# Altium footprint library BD80FD0WHFPTR.PcbLib: 1 footprints
Each footprint in its own frame and in the unit in brackets; x right, y up, seen from the top. Pads: shape width x height; smd on the part's side, far side on the other; paste and mask are expansions set on the pad; w line width, h text height; cw(c..) or ccw(c..) is an arc to the next point about the centre after c.
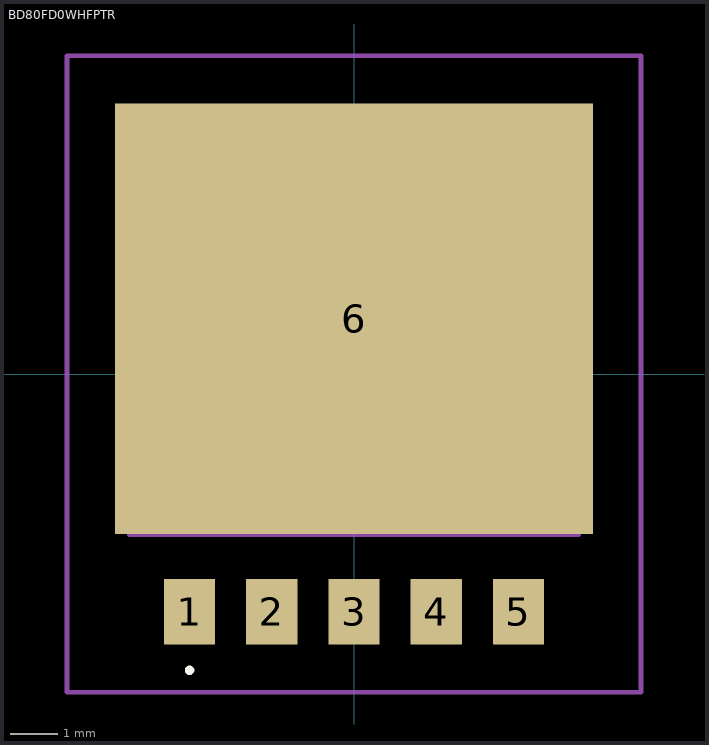
[diagram p0: the footprint, top view; thin cyan lines are the x and y axes]

## BD80FD0WHFPTR [mm]
pads (6):
  rect 1.07x1.37 smd: 1(-3.44,-4.97) 2(-1.72,-4.97) 3(0,-4.97) 4(1.72,-4.97) 5(3.44,-4.97)
  rect 10x9 smd: 6(0,1.155)
Top Overlay:
  lines w0.1: -3.44,-6.247 -3.44,-6.247 ; -3.44,-6.247 ccw(c-3.44,-6.197) -3.44,-6.147 ; -3.44,-6.247 cw(c-3.44,-6.197) -3.44,-6.147 ; -3.44,-6.147 -3.44,-6.147
Mechanical 15:
  lines w0.1: -4.697,-3.364 4.697,-3.364 4.697,4.636 -4.697,4.636 -4.697,-3.364
Mechanical 20:
  lines w0.1: -6,-6.655 6,-6.655 6,6.655 -6,6.655 -6,-6.655